# EAGLE library part BD-A542RD (library bd-a542rd)
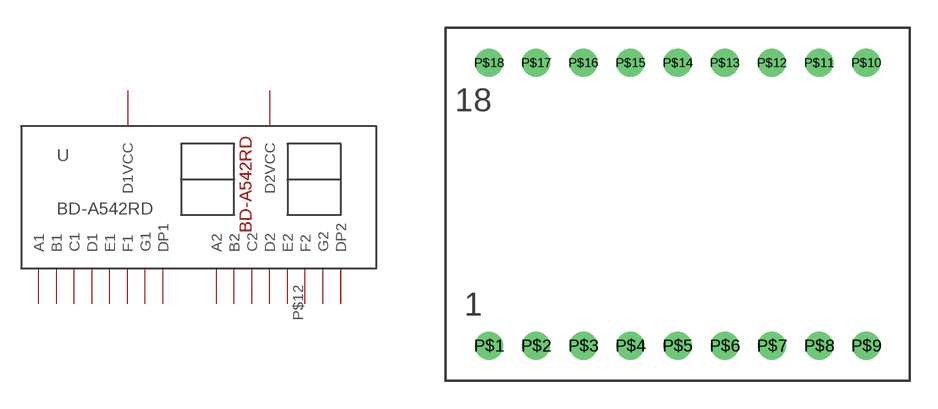
[diagram p0: symbol with the pads of BD-A542RD; footprint BD-A542RD]

Designator prefix -

## BD-A542RD  [BD-A542RD]
P$1  E1  pwr
P$2  D1  pwr
P$3  C1  pwr
P$4  DP1  pwr
P$5  E2  pwr
P$6  D2  pwr
P$7  G2  pwr
P$8  C2  pwr
P$9  DP2  pwr
P$10  B2  pwr
P$11  A2  pwr
P$12  F2  pwr
P$13  D2VCC  pwr
P$14  D1VCC  pwr
P$15  B1  pwr
P$16  A1  pwr
P$17  G1  pwr
P$18  F1  pwr

## Footprint BD-A542RD (pad centres in mm)
drill 1 round: P$1 -10.16,-7.62; P$2 -7.62,-7.62; P$3 -5.08,-7.62; P$4 -2.54,-7.62; P$5 0,-7.62; P$6 2.54,-7.62; P$7 5.08,-7.62; P$8 7.62,-7.62; P$9 10.16,-7.62; P$10 10.16,7.62; P$11 7.62,7.62; P$12 5.08,7.62; P$13 2.54,7.62; P$14 0,7.62; P$15 -2.54,7.62; P$16 -5.08,7.62; P$17 -7.62,7.62; P$18 -10.16,7.62